# EAGLE library part SC18IS602B (library autophat)
SC18IS602B: I2C-bus to SPI bridge 2C-bus slave interface operating up to 400 kHz SPI master operating up to 1.8 Mbit/s 200-byte data buffer Operating supply voltage: 2.4 V to 3.6 V>/li> NXP Datasheet <https://www.nxp.com/docs/en/data-sheet/SC18IS602B.pdf> SparkFun Products SparkFun RoboHAT <https://www.sparkfun.com/products/13750> (DEV-?????)
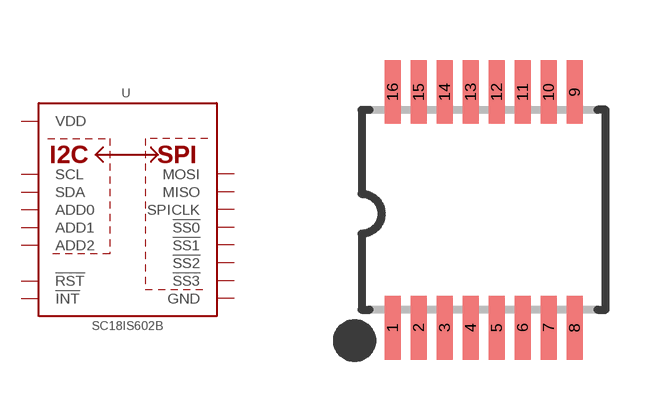
[diagram p0: symbol with the pads of TSSOP16; footprint TSSOP16]

Designator prefix -

## SC18IS602B (VALUE: SC18IS602B)  [TSSOP16]
1  !SS0
2  !SS1
3  !RST
4  GND
5  MISO
6  MOSI
7  SDA
8  SCL
9  !INT
10  !SS2
11  SPICLK
12  VDD
13  !SS3
14  ADD0
15  ADD1
16  ADD2

## Footprint TSSOP16 (pad centres in mm)
TSOP16 thin small outline package
smd 0.4 x 1.6: 1 -2.225,-2.85; 2 -1.575,-2.85; 3 -0.925,-2.85; 4 -0.275,-2.85; 5 0.375,-2.85; 6 1.025,-2.85; 7 1.675,-2.85; 8 2.325,-2.85; 9 2.325,3.05; 10 1.675,3.05; 11 1.025,3.05; 12 0.375,3.05; 13 -0.275,3.05; 14 -0.925,3.05; 15 -1.575,3.05; 16 -2.225,3.05